# Altium footprint library PCB - CONNECTOR - MISC - CNC TECH 3220-20-0100-00.PCBLIB: 1 footprints
Each footprint in its own frame and in the unit in brackets; x right, y up, seen from the top. Pads: shape width x height; smd on the part's side, far side on the other; paste and mask are expansions set on the pad; w line width, h text height; cw(c..) or ccw(c..) is an arc to the next point about the centre after c.
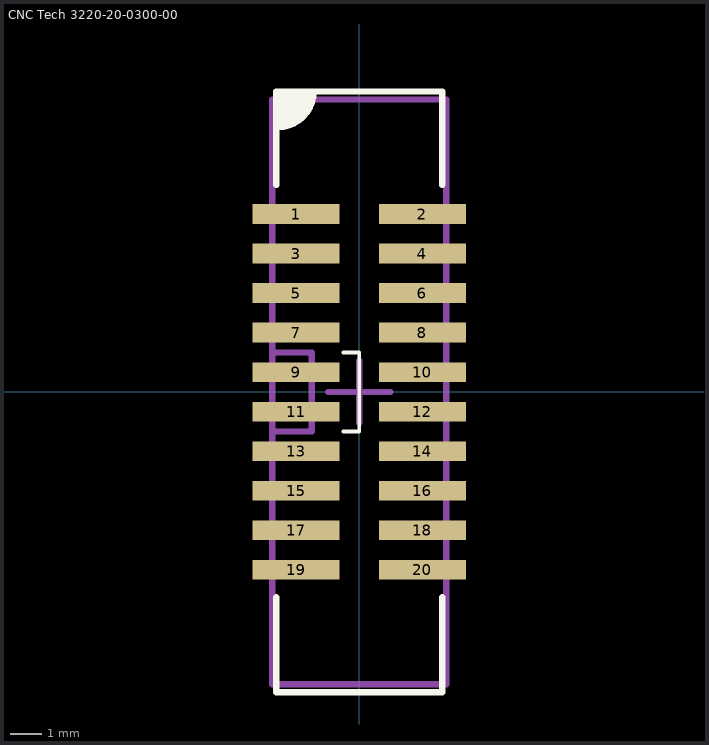
[diagram p0: the footprint, top view; thin cyan lines are the x and y axes]

## CNC Tech 3220-20-0300-00 [mil]
height 220.47
pads (20):
  rect 110x25 smd: 1(-80,225) 2(80,225) 3(-80,175) 4(80,175) 5(-80,125) 6(80,125) 7(-80,75) 8(80,75) 9(-80,25) 10(80,25) 11(-80,-25) 12(80,-25) 13(-80,-75) 14(80,-75) 15(-80,-125) 16(80,-125) 17(-80,-175) 18(80,-175) 19(-80,-225) 20(80,-225)
Top Overlay:
  region: -57.76,380 -57.76,364.25 -87.28,334.72 -103.03,334.72 -103.03,378.03 -105,380
  lines w5: -20,-50 0,-50 0,50 -20,50
  lines w7.87: -105,-260 -105,-380 105,-380 105,-260 ; -105,261.89 -105,380 ; -105,334.72 -103.03,334.72 ccw(c-103.03,380) -57.76,380 ; -97.13,380 -105,380 ; 105,261.89 105,380 -105,380
Mechanical 1:
  lines w7.87: -110,-50 -60,-50 -60,50 -110,50 ; -110,-370 -110,370 110,370 110,-370 -110,-370
Mechanical 15:
  lines w7.87: -39.37,0 39.37,0 ; 0,-39.37 0,39.37
3D body "CNC Tech - 3220-20-0300.step": height 212.6, standoff -7.87, extent -108.26,-374.02 108.27,374.01